# Altium schematic symbol library SnapEDAsch.SchLib: 1 symbol
Pins are listed as number, name and electrical type; pins without a type are passive.

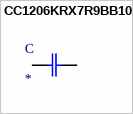
[diagram p0: symbol CC1206KRX7R9BB104]

## CC1206KRX7R9BB104
designator C
1206 0.1 uF 50 V Â±10 % Tolerance X7R SMT Multilayer Ceramic Capacitor; MF: Yageo; MP: CC1206KRX7R9BB104; SnapEDA_Link: https://www.snapeda.com/parts/CC1206KRX7R9BB104/Yageo/view-part/228182/?ref=snap; Value: *; Digi-Key_Purchase_URL: https://www.digikey.in/product-detail/en/yageo/CC1206KRX7R9BB104/311-1179-1-ND/303089?utm_source=snapeda&utm_medium=aggregator&utm_campaign=symbol; Package: 1206 Yageo; Digi-Key_Part_Number: 311-1179-1-ND
footprint CAPC3216X95N
pins: 1 C1, 2 C2